# Altium footprint library SSQ10202TSRA.PcbLib: 1 footprints
Each footprint in its own frame and in the unit in brackets; x right, y up, seen from the top. Pads: shape width x height; smd on the part's side, far side on the other; paste and mask are expansions set on the pad; w line width, h text height; cw(c..) or ccw(c..) is an arc to the next point about the centre after c.
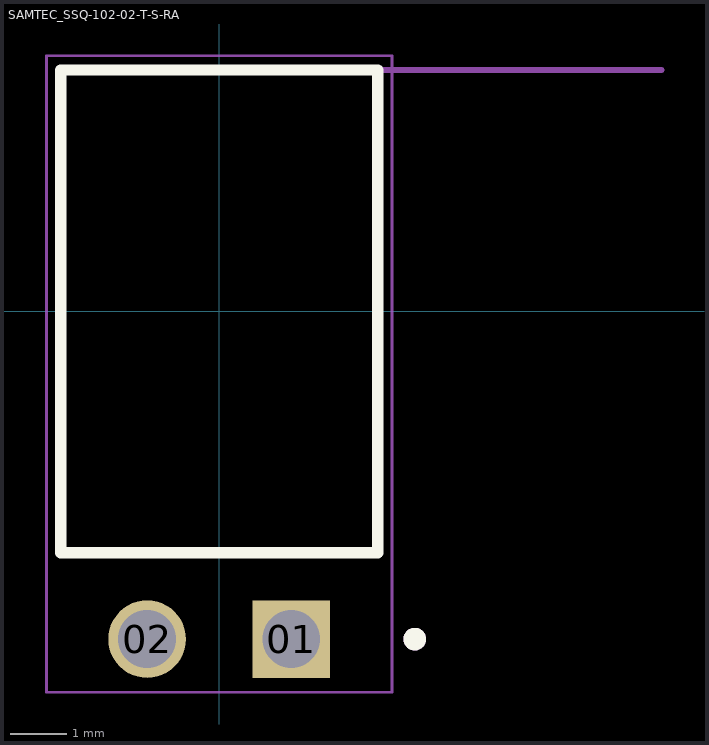
[diagram p0: the footprint, top view; thin cyan lines are the x and y axes]

## SAMTEC_SSQ-102-02-T-S-RA [mm]
pads (2):
  rect 1.37x1.37 hole 1.02: 01(1.27,-5.775)
  round 1.37 hole 1.02: 02(-1.27,-5.775)
Top Overlay:
  circle w0.2: c3.445,-5.775 r0.1
  lines w0.2: -2.795,-4.255 -2.795,4.255 2.795,4.255 2.795,-4.255 -2.795,-4.255
Mechanical 13:
  circle w0.2: c3.445,-5.775 r0.1
  lines w0.1: 7.795,4.255 2.795,4.255 ; -2.795,-4.255 -2.795,4.255 ; -2.795,-4.255 2.795,-4.255 ; -2.795,-4.255 -2.795,4.255 ; -2.795,4.255 2.795,4.255 ; -2.795,4.255 2.795,4.255 ; 2.795,-4.255 2.795,4.255 ; 2.795,-4.255 2.795,4.255
  text "'.Designator'" at 2.894,-6.652 h0.7
  text "PCB Edge" at 3.295,4.755 h1
Mechanical 15:
  lines w0.05: -3.045,-6.71 -3.045,4.505 3.045,4.505 3.045,-6.71 -3.045,-6.71